# Altium footprint library RLC.PcbLib: 64 footprints (part 3 of 4)
Each footprint in its own frame and in the unit in brackets; x right, y up, seen from the top. Pads: shape width x height; smd on the part's side, far side on the other; paste and mask are expansions set on the pad; w line width, h text height; cw(c..) or ccw(c..) is an arc to the next point about the centre after c.
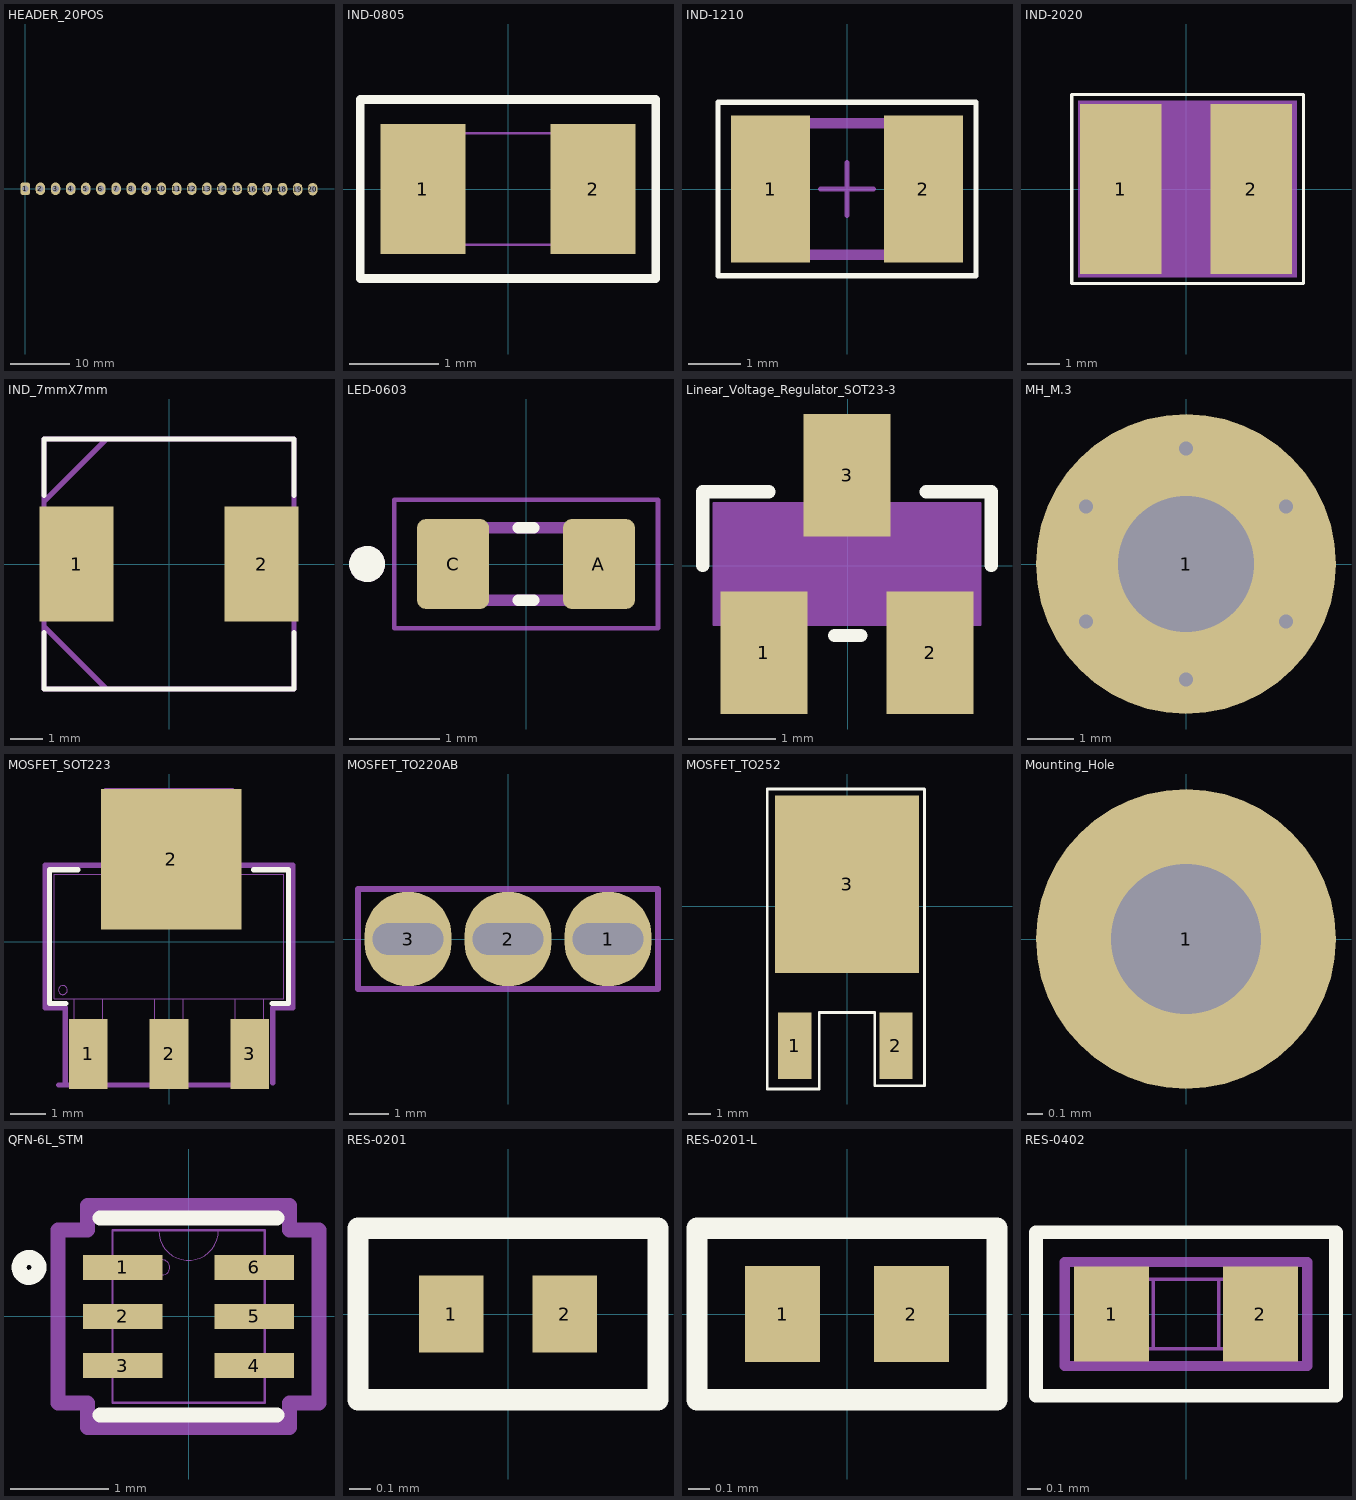
[diagram p2: the footprints below, top view; thin cyan lines are the x and y axes]

## HEADER_20POS [mm] "Pin Header, pitch 2.54 mm, THT, Vertical, single row, 4p"
height 8.54
pads (20):
  rrect50% 1.6x2.1 hole 1.1: 1(0,0)
  oval 1.6x2.1 hole 1.1: 2(2.54,0) 3(5.08,0) 4(7.62,0) 5(10.16,0) 6(12.7,0) 7(15.24,0) 8(17.783,0) 9(20.323,0) 10(22.863,0) 11(25.403,0) 12(27.94,0) 13(30.48,0) 14(33.02,0) 15(35.56,0) 16(38.096,-0.043) 17(40.636,-0.043) 18(43.176,-0.043) 19(45.715,-0.073) 20(48.255,-0.073)
3D body "61300411121.stp": height 8.57, standoff -2.97, extent 39.37,-1.27 49.53,1.27
3D body "61300411121.stp": height 8.57, standoff -2.97, extent 34.24,-1.279 44.4,1.261
3D body "61300411121.stp": height 8.57, standoff -2.97, extent 19.05,-1.27 29.21,1.27
3D body "61300411121.stp": height 8.57, standoff -2.97, extent 8.89,-1.27 19.05,1.27
3D body "61300411121.stp": height 8.57, standoff -2.97, extent -1.27,-1.27 8.89,1.27
3D body "61300411121.stp": height 8.57, standoff -2.97, extent 26.67,-1.27 36.83,1.27

## IND-0805 [mm]
pads (2):
  rect 0.95x1.45 smd paste+0 mask+0.06: 1(-0.95,0) 2(0.95,0)
Top Overlay:
  lines w0.1: -1.65,-1 -1.65,1 1.65,1 1.65,-1 -1.65,-1
Mechanical 13:
  lines w0.025: -1.003,-0.622 -1.003,0.622 ; -1.003,-0.622 -0.495,-0.622 -0.495,0.622 -1.003,0.622 ; -1.003,-0.622 1.003,-0.622 ; -1.003,-0.622 -1.003,0.622 ; -1.003,0.622 1.003,0.622 ; 1.003,-0.622 0.495,-0.622 0.495,0.622 1.003,0.622 ; 1.003,-0.622 1.003,0.622 ; 1.003,-0.622 1.003,0.622
3D body "IND-0805.STEP": height 0.8, standoff 0, extent -1,-0.6 1,0.6

## IND-1210 [mm] "BRL3225T2R2M / 2.2uH"
pads (2):
  rect 1.5x2.8 smd paste+0 mask+0.06: 1(-1.45,0) 2(1.45,0)
Top Overlay:
  lines w0.1: -2.45,-1.65 2.45,-1.65 2.45,1.65 -2.45,1.65 -2.45,-1.65
Mechanical 13:
  lines w0.2: -1.6,-1.25 -1.6,1.25 1.6,1.25 1.6,-1.25 -1.6,-1.25
Mechanical 16:
  lines w0.1: -0.5,0 0.5,0 ; 0,-0.5 0,0.5
3D body "IND-1210.step": height 1.7, standoff 0, extent -1.6,-1.25 1.6,1.25

## IND-2020 [mm]
pads (2):
  rect 2.5x5.2 smd paste+0 mask+0.08: 1(-2,0) 2(2,0)
Top Overlay:
  lines w0.1: -3.5,-2.9 3.6,-2.9 3.6,2.9 -3.5,2.9 -3.5,-2.9
Mechanical 13:
  lines w0.1: -2.5,-1.6 ccw(c-2.3,-1.6) -2.3,-1.8 -1.9,-1.8 -1.2,-2.5 1.2,-2.5 1.9,-1.8 2.3,-1.8 ccw(c2.3,-1.6) 2.5,-1.6 2.5,1.6 ccw(c2.3,1.6) 2.3,1.8 1.9,1.8 1.2,2.5 -1.2,2.5 -1.9,1.8 -2.3,1.8 ccw(c-2.3,1.6) -2.5,1.6 -2.5,-1.6
Mechanical 15:
  region: 3.4,-2.7 -3.3,-2.7 -3.3,2.7 3.4,2.7
3D body "downloads_stp_WE_LQSA_78404054xxx_5040+%28rev1%29.stp": height 3.72, standoff 0.02, extent -2.505,-2.5 2.505,2.5

## IND_7mmX7mm [mil]
pads (2):
  rect 89x138 smd: 1(-111,0) 2(111,0)
Top Overlay:
  lines w6: -150,-82 -150,-150 150,-150 150,-82 ; -150,82 -150,150 150,150 150,82
Mechanical 13:
  lines w6: -150,-75 -75,-150 ; -150,75 -75,150 ; -150,-150 150,-150 150,150 -150,150 -150,-150
3D body "step_temp.STEP": height 171.26, standoff 0, extent -149.61,-149.61 149.61,149.61

## LED-0603 [mm]
height 0.45
pads (2):
  rrect25% 0.8x1 smd mask+0.07: A(0.81,0) C(-0.81,0)
Top Overlay:
  circle w0.2: c-1.765,0 r0.1
  lines w0.127: -0.085,-0.4 0.085,-0.4 ; -0.085,0.4 0.085,0.4
Mechanical 13:
  circle w0.2: c-1.765,0 r0.1
  lines w0.127: -0.8,-0.4 0.8,-0.4 0.8,0.4 -0.8,0.4 -0.8,-0.4
Mechanical 15:
  lines w0.05: -1.465,-0.715 1.465,-0.715 1.465,0.715 -1.465,0.715 -1.465,-0.715
3D body "step_temp.STEP": height 0.35, standoff 0, extent -0.8,-0.4 0.8,0.4

## Linear_Voltage_Regulator_SOT23-3 [mm]
pads (3):
  rect 1x1.4 smd paste+0 mask+0: 1(-0.957,-0.998) 2(0.943,-0.998) 3(-0.007,1.034)
Top Overlay:
  lines w0.152: -1.658,0 -1.658,0.843 -0.9,0.843 ; -0.15,-0.8 0.15,-0.8 ; 0.9,0.843 1.644,0.843 1.644,0
  text ".Designator" at -3.5,2.5 h0.7
Mechanical 13:
  circle w0.025: c-1.277,-0.427 r0.127
  lines w0.025: -1.531,-0.681 -1.531,0.716 1.517,0.716 1.517,-0.681 -1.531,-0.681 ; -1.211,-1.303 -0.703,-1.303 -0.703,-0.681 -1.211,-0.681 -1.211,-1.303 ; -0.261,0.716 -0.261,1.339 0.247,1.339 0.247,0.716 -0.261,0.716 ; 0.689,-1.303 1.197,-1.303 1.197,-0.681 0.689,-0.681 0.689,-1.303
Mechanical 15:
  region: 1.517,-0.681 -1.531,-0.681 -1.531,0.716 1.517,0.716
3D body "SOT23_DIO.step": height 1.12, standoff 0, extent -1.531,-1.303 1.517,1.339

## MH_M.3 [mm]
pads (1):
  round 6.5 hole 2.95 mask+0.07: 1(0,0)
via 0,-2.5 diameter 0.6 hole 0.305
via -2.165,-1.25 diameter 0.6 hole 0.305
via -2.165,1.25 diameter 0.6 hole 0.305
via 2.165,-1.25 diameter 0.6 hole 0.305
via 2.165,1.25 diameter 0.6 hole 0.305
via 0,2.5 diameter 0.6 hole 0.305

## MOSFET_SOT223 [mm]
pads (4):
  rect 1.1x2 smd paste+0: 1(-2.303,-3.2) 2(-0.003,-3.2) 3(2.297,-3.2)
  rect 4x4 smd mask+0.102: 2(0.064,2.349)
Top Overlay:
  lines w0.152: -2.95,-1.762 -3.407,-1.762 -3.407,2.048 -2.603,2.048 ; 2.413,2.048 3.4,2.048 3.4,-1.762 2.943,-1.762
Mechanical 13:
  circle w0: c-3.026,-1.381 r0.127
  lines w0.025: -1.68,3.699 1.419,3.699 ; -1.553,3.699 -1.553,1.921 1.546,1.921 1.546,3.699 ; -3.28,-1.635 -3.28,1.921 3.273,1.921 3.273,-1.635 -3.28,-1.635 ; -2.71,-3.413 -1.897,-3.413 -1.897,-1.635 -2.71,-1.635 -2.71,-3.413 ; -0.41,-3.413 0.403,-3.413 0.403,-1.635 -0.41,-1.635 -0.41,-3.413 ; 1.89,-3.413 2.703,-3.413 2.703,-1.635 1.89,-1.635 1.89,-3.413
Mechanical 15:
  lines w0.152: -3.154,-4.086 2.766,-4.086 ; -2.964,-4.023 -2.964,-1.889 -3.534,-1.889 -3.534,2.175 -1.807,2.175 -1.807,4.309 1.8,4.309 1.8,2.175 3.527,2.175 3.527,-1.889 2.957,-1.889 2.957,-4.023
3D body "SOT223_MOSFET.step": height 1.81, standoff 0, extent -3.277,-3.556 3.277,3.556

## MOSFET_TO220AB [mm]
pads (3):
  oval 2.2x2.4 hole 0.8 slot 1.8 at 0 deg mask+0.04: 1(2.54,0) 2(0,0) 3(-2.54,0)
Mechanical 5:
  text "S" at -2.797,-2.32 h0.8
  text "D" at -0.283,-2.357 h0.8
  text "G" at 2.268,-2.348 h0.8
Mechanical 15:
  lines w0.152: -3.81,-1.27 3.81,-1.27 3.81,1.27 -3.81,1.27 -3.81,-1.27
3D body "mosfet_TO220AB.stp": height 16.26, standoff -14.73, extent -5.335,-3.222 5.335,1.608

## MOSFET_TO252 [mm]
pads (3):
  rect 1.5x3 smd paste+0 mask+0: 1(-2.364,-6.3) 2(2.208,-6.3)
  rect 6.5x8 smd paste+0 mask+0: 3(0,1)
Top Overlay:
  lines w0.127: -3.6,-8.25 -3.6,5.3 3.5,5.3 3.5,-8.1 1.25,-8.1 1.25,-4.8 -1.25,-4.8 -1.25,-8.25 -3.6,-8.25
3D body "DPAK_06LCPROG_TWS.step": height 2.39, standoff -0.05, extent -3.366,-7.277 3.366,4.382

## Mounting_Hole [mm]
pads (1):
  round 2 hole 1 mask+0.05: 1(0,0)

## QFN-6L_STM [mm]
pads (6):
  rect 0.808x0.255 smd paste+0 mask+0: 1(-0.671,0.5) 2(-0.671,0) 3(-0.671,-0.5) 4(0.671,-0.5) 5(0.671,0) 6(0.671,0.5)
Top Overlay:
  circle w0.152: c-1.625,0.5 r0.102
  lines w0.152: -0.902,-1.003 0.902,-1.003 ; -0.902,1.003 0.902,1.003
Mechanical 13:
  circle w0: c-0.267,0.5 r0.076
  lines w0: -0.305,0.876 ccw(c0,0.876) 0.305,0.876
  lines w0.025: -0.775,-0.876 0.775,-0.876 0.775,0.876 -0.775,0.876 -0.775,-0.876
Mechanical 15:
  lines w0.152: -1.329,-0.881 -1.329,0.881 -1.029,0.881 -1.029,1.13 1.029,1.13 1.029,0.881 1.329,0.881 1.329,-0.881 1.029,-0.881 1.029,-1.13 -1.029,-1.13 -1.029,-0.881 -1.329,-0.881
3D body "QFN-6L_STM.step": height 0.56, standoff 0, extent -0.775,-0.876 0.775,0.876

## RES-0201 [mm]
pads (2):
  rect 0.3x0.36 smd paste+0 mask+0.04: 1(-0.265,0) 2(0.265,0)
Top Overlay:
  lines w0.1: -0.7,-0.4 0.7,-0.4 0.7,0.4 -0.7,0.4 -0.7,-0.4
3D body "RES-0201.step": height 0.23, standoff 0, extent -0.3,-0.15 0.3,0.15

## RES-0201-L [mm]
pads (2):
  rect 0.35x0.45 smd paste+0 mask+0.05: 1(-0.3,0) 2(0.3,0)
Top Overlay:
  lines w0.1: -0.7,-0.4 0.7,-0.4 0.7,0.4 -0.7,0.4 -0.7,-0.4
3D body "RES-0201.step": height 0.23, standoff 0, extent -0.3,-0.15 0.3,0.15

## RES-0402 [mm]
pads (2):
  rect 0.55x0.7 smd paste+0 mask+0.06: 1(-0.546,0) 2(0.546,0)
Top Overlay:
  lines w0.1: -1.1,-0.6 1.1,-0.6 1.1,0.6 -1.1,0.6 -1.1,-0.6
Mechanical 13:
  lines w0.025: -0.495,-0.254 -0.495,0.254 ; -0.495,-0.254 -0.241,-0.254 -0.241,0.254 -0.495,0.254 ; -0.495,-0.254 0.495,-0.254 ; -0.495,-0.254 -0.495,0.254 ; -0.495,0.254 0.495,0.254 ; 0.495,-0.254 0.241,-0.254 0.241,0.254 0.495,0.254 ; 0.495,-0.254 0.495,0.254 ; 0.495,-0.254 0.495,0.254
Mechanical 15:
  lines w0.076: -0.889,-0.381 -0.889,0.381 0.889,0.381 0.889,-0.381 -0.889,-0.381
3D body "RES_1005_SAM.step": height 0.4, standoff 0, extent -0.5,-0.25 0.5,0.25